# Altium schematic symbol library CeleronLib_IC.SchLib: 8 symbols
Pins are listed as number, name and electrical type; pins without a type are passive.

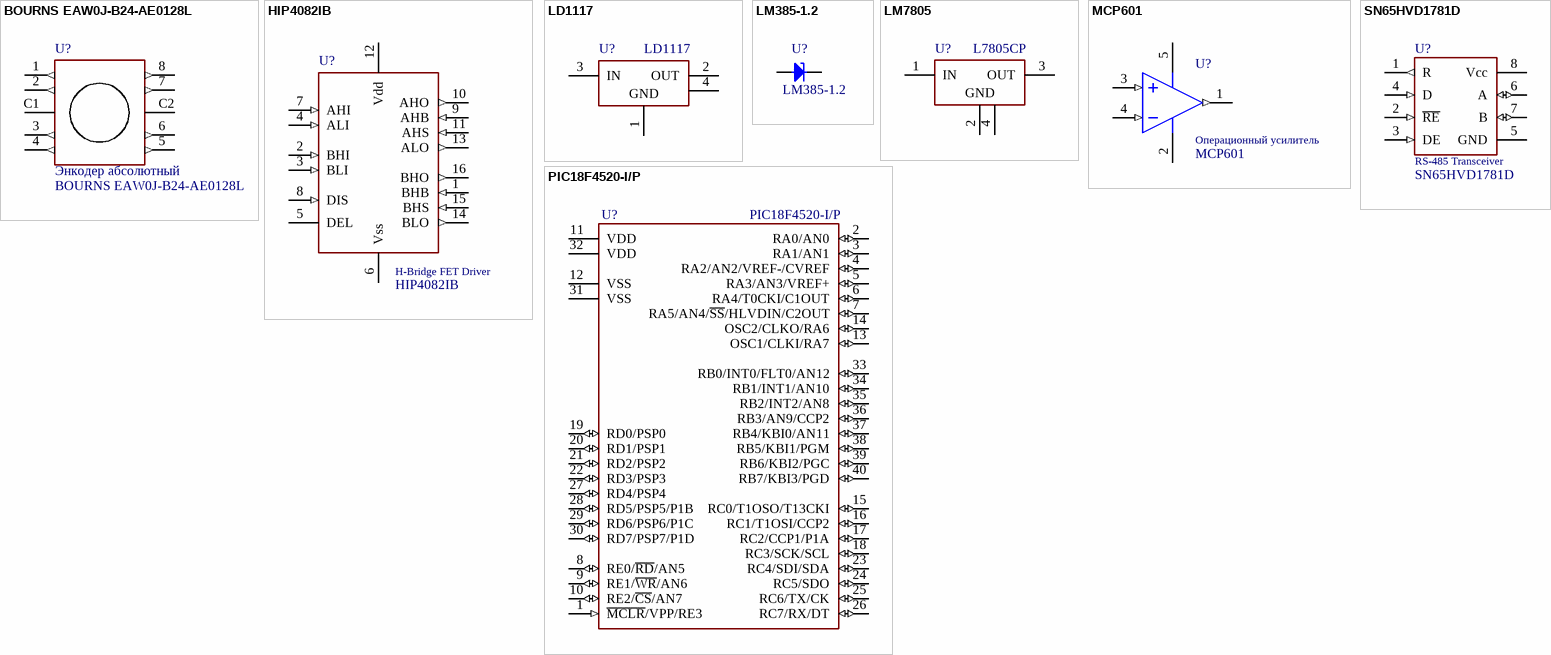
[diagram p0: symbols BOURNS EAW0J-B24-AE0128L to SN65HVD1781D]

## BOURNS EAW0J-B24-AE0128L
designator U?, comment Family: Энкодер абсолютный  Device: BOURNS EAW0J-B24-AE0128L  (hidden comment: Энкодер абсолютный  BOURNS EAW0J-B24-AE0128L)
Абсолютный энкодер BOURNS EAW0J-B24-AE0128L  (8-битный, 128PPR тиков на оборот); Voltage: 500 VDC; Name: 8-битный Код Грея, 128PPR тиков на оборот; ComponentLink1Description: Сайт производителя; ComponentLink2URL: http://kosmodrom.com.ua/pdf/EAW.pdf; ComponentLink2Description: Datasheet; ComponentLink1URL: http://www.bourns.com/; ComponentLink3Description: Где купить?; ComponentLink3URL: http://kosmodrom.com.ua/el.php?name=EAW0J-B24-AE0128L; Package: монтаж в отверстия
footprint ENCODER EAW0J-B24-AE0128L (Абсолютный энкодер BOURNS EAW0J-B24-AE0128L  (8-битный но 128PPR тиков на оборот))
pins: 1 (out), 2 (out), 3 (out), 4 (out), 5 (out), 6 (out), 7 (out), 8 (out), C1 Common (power), C2 Common (power)

## HIP4082IB
designator U?, comment Device: HIP4082IB  Name: H-Bridge FET Driver  (hidden comment: Микросхема  HIP4082IB (H-Bridge FET Driver)  SO16)
80V, 1.25A Peak Current H-Bridge  FET Driver; Package: SO16; ComponentLink1Description: Сайт производителя; ComponentLink2URL: http://www.intersil.com/content/dam/intersil/documents/hip4/hip4082.pdf; ComponentLink2Description: Datasheet; ComponentLink1URL: http://www.intersil.com/en/products/space-and-harsh-environment/harsh-environment/half--full-bridge-and-three-phase-drivers/HIP4082.html; Family: Микросхема; Voltage: 80V; ComponentLink3Description: Где купить?; ComponentLink3URL: http://voron.ua/catalog/020323
footprint SOIC16N_L (16-Pin Small Outline Integrated Circuit 1.27 mm Pitch, IPC High Density)
footprint SOIC16N_M (16-Pin Small Outline Integrated Circuit 1.27 mm Pitch, IPC Low Density)
footprint SOIC16N_N (16-Pin Small Outline Integrated Circuit 1.27 mm Pitch, IPC Medium Density)
pins: 1 BHB (in), 2 BHI (in), 3 BLI (in), 4 ALI (in), 5 DEL, 6 Vss (power), 7 AHI (in), 8 DIS (in), 9 AHB (in), 10 AHO (out), 11 AHS (in), 12 Vdd (power), 13 ALO (out), 14 BLO (out), 15 BHS (in), 16 BHO (out)

## LD1117
designator U?, comment Device: LD1117  (hidden comment: Микросхема  LD1117 (3-Terminal LowDrop Linear Voltage Regulator, 800mA)  SOT-223)
3-Terminal LowDrop Linear Voltage Regulator, 800mA 15V; Voltage: 3.3V; ComponentLink1Description: Сайт производителя; ComponentLink2URL: http://www.st.com/resource/en/datasheet/ld1117.pdf; ComponentLink2Description: Datasheet; ComponentLink1URL: http://www.st.com/; ComponentLink3Description: Где купить?; ComponentLink3URL: http://voron.ua/catalog/017949; Family: Микросхема; Package: SOT-223; Name: 3-Terminal LowDrop Linear Voltage Regulator, 800mA
footprint TO-220-v (TO-220 3-Terminal - Vertical Mount)
footprint TO-220-H (TO-220 3-Terminal + Tab - Horizontal Mount)
footprint TO-220-HFLIP (TO-220 3-Terminal + Tab - Flipped Horizontal Mount)
footprint TO-220-h_a (TO-220 3-Terminal - Horizontal Surface Mount Through The Circuit Board)
footprint DPAK, TO-252-3L (DPAK TO-252, 2.28mm pitch; 2 pin, 9.7mm L X 6.7mm W X 2.40mm H body)
footprint SOT-223 (SOT-223/SC-73; 4 Leads; Body 6.7 x 7.3 mm, inc. leads (LxW max))
pins: 1 GND (power), 2 OUT (power), 3 IN (power), 4 OUT (power)

## LM385-1.2
designator U?  Device: LM385-1.2
Источник опорного напряжения; Voltage: 1.235V; ComponentLink2Description: Datasheet; ComponentLink2URL: http://www.ti.com/lit/ds/symlink/lm385-1.2.pdf; ComponentLink1Description: Сайт производителя; ComponentLink1URL: http://www.ti.com/; Family: Микросхема; Package: SO8; ComponentLink3Description: Где купить?; ComponentLink3URL: https://voron.ua/catalog/020321; Name: Источник опорного напряжения
footprint SOIC8 8S1_L (SOIC, 8-Leads, Body 4.9x3.9mm, Pitch 1.27mm, IPC High Density); pin to pad 1>8 2>4 4>2 5>7
footprint SOIC8 8S1_M (SOIC, 8-Leads, Body 4.9x3.9mm, Pitch 1.27mm, IPC Low Density); pin to pad 1>8 2>4 4>2 5>7
footprint SOIC8 8S1_N (SOIC, 8-Leads, Body 4.9x3.9mm, Pitch 1.27mm, IPC Medium Density); pin to pad 1>8 2>4 4>2 5>7
footprint TO-92AA-P254 (TO-92 (TO-226-RC03C), Pitch 2.54mm, Flat Index, 3 In-Line, Bent Leads, Body Dia. 5.3mm); pin to pad 1>2 2>3
footprint TO-92AA-P152 (TO-92 (TO-226-RC03A),  Pitch 1.524mm, Flat Index, 3 In-Line, Axial Leads, Body Dia. 5.3mm, Leads Dia. 0.5mm (max)); pin to pad 1>2 2>3
pins: 1 C, 2 A

## LM7805
designator U?, comment Device: L7805CP  (hidden comment: Микросхема  L7805CP (3-Terminal Linear Voltage Regulator, 1.5A)  TO-220F)
3-Terminal Linear Voltage Regulator, 1.5A 35V; Voltage: 5V; ComponentLink1Description: Сайт производителя; ComponentLink2URL: http://www.st.com/content/ccc/resource/technical/document/datasheet/41/4f/b3/b0/12/d4/47/88/CD00000444.pdf/files/CD00000444.pdf/jcr:content/translations/en.CD00000444.pdf; ComponentLink2Description: Datasheet; ComponentLink1URL: http://www.st.com/; ComponentLink3Description: Где купить?; ComponentLink3URL: http://voron.ua/catalog/021839; Family: Микросхема; Package: TO-220F; Name: 3-Terminal Linear Voltage Regulator, 1.5A
footprint TO-220-v (TO-220 3-Terminal - Vertical Mount)
footprint TO-220-H (TO-220 3-Terminal + Tab - Horizontal Mount)
footprint TO-220-HFLIP (TO-220 3-Terminal + Tab - Flipped Horizontal Mount)
footprint TO-220-h_a (TO-220 3-Terminal - Horizontal Surface Mount Through The Circuit Board)
footprint DPAK, TO-252-3L (DPAK TO-252, 2.28mm pitch; 2 pin, 9.7mm L X 6.7mm W X 2.40mm H body)
footprint D2PAK_M (D2-PAK, 4-Leads, Body 8.8x10.4mm, Pitch 2.54mm, Lead Span 15.1mm, IPC Low Density)
pins: 1 IN (power), 2 GND (power), 3 OUT (power), 4 GND (power)

## MCP601
designator U?, comment Device: MCP601  Name: Операционный усилитель  (hidden comment: Микросхема  MCP601 (Операционный усилитель)  SOT23-5)
Операционный Усилитель общего назначения: rail-to-rail, 2.7V to 6.0V, 2.8 МГц.; Package: SOT23-5; ComponentLink1Description: Сайт производителя; ComponentLink2URL: http://ww1.microchip.com/downloads/en/DeviceDoc/21314g.pdf; ComponentLink2Description: Datasheet; ComponentLink1URL: http://www.microchip.com/; Family: Микросхема; Voltage: 2.7V to 6.0V; ComponentLink3Description: Где купить?; ComponentLink3URL: http://voron.ua/catalog/016787
footprint SOIC8 8S1_M (SOIC, 8-Leads, Body 4.9x3.9mm, Pitch 1.27mm, IPC Low Density); pin to pad 1>6 2>4 4>2 5>7
footprint SOT23-5 (TSOP-5/SOT-23/SC-74A; 5 Leads; Body 3.1 x 3.1 mm, inc. leads (LxW max))
footprint SOIC8 8S1_L (SOIC, 8-Leads, Body 4.9x3.9mm, Pitch 1.27mm, IPC High Density); pin to pad 1>6 2>4 4>2 5>7
footprint SOIC8 8S1_N (SOIC, 8-Leads, Body 4.9x3.9mm, Pitch 1.27mm, IPC Medium Density); pin to pad 1>6 2>4 4>2 5>7
pins: 1 OUT (out), 2 V- (power), 3 IN+ (in), 4 IN- (in), 5 V+ (power)

## PIC18F4520-I/P
designator U?, comment Device: PIC18F4520-I/P  (hidden comment: Микросхема  PIC18F4520-I/P (8bit Microcontroller, 32K Flash)  DIP40-600)
Enhanced Flash Microcontroller with 10-Bit A/D and nanoWatt Technology, 32K Flash, 40-Pin PDIP, Industrial Temperature Range; Voltage: 5V; ComponentLink1Description: Сайт Производителя; ComponentLink1URL: http://www.microchip.com/wwwproducts/en/PIC18F4520; ComponentLink2Description: Datasheet; ComponentLink2URL: http://ww1.microchip.com/downloads/en/DeviceDoc/39631E.pdf; ComponentLink3Description: Где купить?; ComponentLink3URL: http://www.microchip.ua/index.php?p=search.php&query=PIC18F4520-I%2FP; Family: Микросхема; Package: DIP40-600; Name: 8bit Microcontroller, 32K Flash
footprint DIP40-600 (40 Leads Dual In-Line Package, Row Spacing 15.24mm; Pitch 2.54mm)
pins: 1 ~{MCLR}/VPP/RE3 (in), 2 RA0/AN0 (io), 3 RA1/AN1 (io), 4 RA2/AN2/VREF-/CVREF (io), 5 RA3/AN3/VREF+ (io), 6 RA4/T0CKI/C1OUT (io), 7 RA5/AN4/~{SS}/HLVDIN/C2OUT (io), 8 RE0/~{RD}/AN5 (io), 9 RE1/~{WR}/AN6 (io), 10 RE2/~{CS}/AN7 (io), 11 VDD (power), 12 VSS (power), 13 OSC1/CLKI/RA7 (io), 14 OSC2/CLKO/RA6 (io), 15 RC0/T1OSO/T13CKI (io), 16 RC1/T1OSI/CCP2 (io), 17 RC2/CCP1/P1A (io), 18 RC3/SCK/SCL (io), 19 RD0/PSP0 (io), 20 RD1/PSP1 (io), 21 RD2/PSP2 (io), 22 RD3/PSP3 (io), 23 RC4/SDI/SDA (io), 24 RC5/SDO (io), 25 RC6/TX/CK (io), 26 RC7/RX/DT (io), 27 RD4/PSP4 (io), 28 RD5/PSP5/P1B (io), 29 RD6/PSP6/P1C (io), 30 RD7/PSP7/P1D (io), 31 VSS (power), 32 VDD (power), 33 RB0/INT0/FLT0/AN12 (io), 34 RB1/INT1/AN10 (io), 35 RB2/INT2/AN8 (io), 36 RB3/AN9/CCP2 (io), 37 RB4/KBI0/AN11 (io), 38 RB5/KBI1/PGM (io), 39 RB6/KBI2/PGC (io), 40 RB7/KBI3/PGD (io)

## SN65HVD1781D
designator U?, comment Device: SN65HVD1781D  Name: RS-485 Transceiver  (hidden comment: Микросхема  SN65HVD1781D (RS-485 Transceiver)  SO8)
70-V Fault-Protected RS-485 Transceivers; Voltage: 3,3 .. 5V; Package: SO8; ComponentLink1Description: Сайт производителя; ComponentLink2URL: http://www.ti.com/lit/ds/symlink/sn65hvd1781.pdf; ComponentLink2Description: Datasheet; ComponentLink1URL: http://www.ti.com/product/SN65HVD1781; Family: Микросхема; ComponentLink3Description: Где купить?; ComponentLink3URL: http://voron.ua/catalog/025117
footprint SOIC8 8S1_M (SOIC, 8-Leads, Body 4.9x3.9mm, Pitch 1.27mm, IPC Low Density)
footprint SOIC8 8S1_L (SOIC, 8-Leads, Body 4.9x3.9mm, Pitch 1.27mm, IPC High Density)
footprint SOIC8 8S1_N (SOIC, 8-Leads, Body 4.9x3.9mm, Pitch 1.27mm, IPC Medium Density)
pins: 1 R (out), 2 ~{RE} (in), 3 DE (in), 4 D (in), 5 GND (power), 6 A (io), 7 B (io), 8 Vcc (power)